# Altium integrated library Infineon_Sensor_IC.IntLib: 87 symbols (part 1 of 3)
Pins are listed as number, name and electrical type; pins without a type are passive.

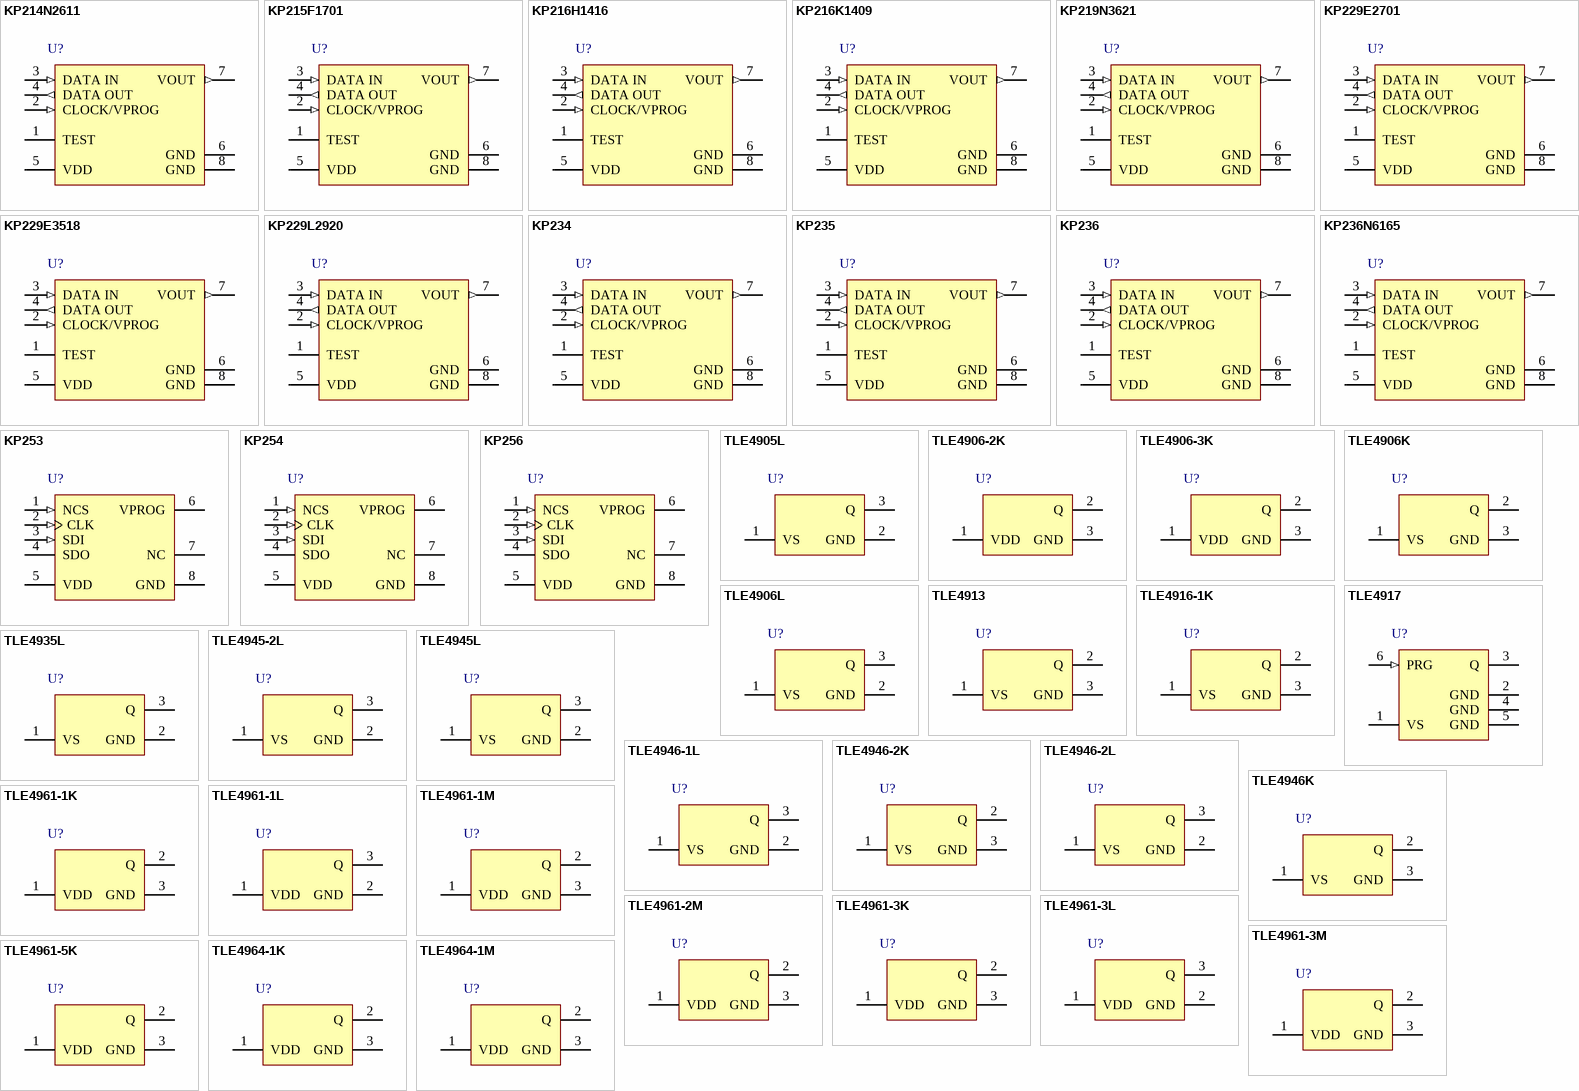
[diagram p0: symbols KP214N2611 to TLE4964-1M]

## KP214N2611
designator U?
Analog Absolute Pressure Sensor, -40 to 125 degC, DSOF-8-16, Reel, Green; Manufacturer: Infineon; PartNumber: KP214N2611; Green: TRUE; Pressure Range [kPa]: 15 - 115; Supply Voltage: 5 V; DatasheetVersion: Rev. 1.0; PackageVersion: Jun-10; PackageReference: DSOF-8-16; PackageDescription: 8-Pin Plastic (Green) Dual Small Outline Flat Package, 7 x 7 mm Body, 1.27 mm Pitch; Supplier 1: Mouser; Supplier Part Number 1: 726-KP214N2611; Supplier 2: Digi-Key; Supplier Part Number 2: KP214N2611-ND; Halogen-free: TRUE; Packing: Reel; Mounting Technology: Surface Mount; ComponentLink1Description: Manufacturer URL; ComponentLink1URL: http://www.infineon.com/; ComponentLink2Description: Datasheet; ComponentLink2URL: http://www.infineon.com/dgdl/KP214N2611_DS_Rev_1.0.pdf?folderId=db3a30431d8a6b3c011dd8fc5a954267&fileId=db3a30432ad629a6012af6ab37f00b3a; ComponentLink3Description: Package Specification; ComponentLink3URL: http://www.infineon.com/dgdl/KP234_DS_Rev_1.0.pdf?folderId=db3a30431d8a6b3c011dd8fc5a954267&fileId=db3a30432ad629a6012af66bbf030b08
footprint INF-DSOF-8-16_V (DSOF, 8-Leads, Body 7x7mm, Pitch 1.27mm)
pins: 1 TEST "Test pin", 2 CLOCK/VPROG (in) "External clock for communication / programming voltage", 3 DATA IN (in) "Serial data input pin", 4 DATA OUT (out) "Serial data output pin", 5 VDD (power) "Supply voltage", 6 GND (power) "Circuit ground potential", 7 VOUT (out) "Analog pressure signal output", 8 GND (power) "Circuit ground potential"

## KP215F1701
designator U?
Analog Absolute Pressure Sensor, -40 to 140 degC, DSOF-8-16, Reel, Green; Manufacturer: Infineon; PartNumber: KP215F1701; Green: TRUE; Pressure Range [kPa]: 10 - 115; Supply Voltage: 5 V; DatasheetVersion: Rev. 1.0; PackageVersion: Jun-10; PackageReference: DSOF-8-16; PackageDescription: 8-Pin Plastic (Green) Dual Small Outline Flat Package, 7 x 7 mm Body, 1.27 mm Pitch; Supplier 1: Mouser; Supplier Part Number 1: 726-KP215F1701; Supplier 2: Digi-Key; Supplier Part Number 2: KP215F1701-ND; Halogen-free: TRUE; Packing: Reel; Mounting Technology: Surface Mount; ComponentLink1Description: Manufacturer URL; ComponentLink1URL: http://www.infineon.com/; ComponentLink2Description: Datasheet; ComponentLink2URL: http://www.infineon.com/dgdl/KP215F1701_DS_Rev_1.0.pdf?folderId=db3a30431d8a6b3c011dd8fc5a954267&fileId=db3a30432ad629a6012af6a900a30b34; ComponentLink3Description: Package Specification; ComponentLink3URL: http://www.infineon.com/dgdl/KP234_DS_Rev_1.0.pdf?folderId=db3a30431d8a6b3c011dd8fc5a954267&fileId=db3a30432ad629a6012af66bbf030b08
footprint INF-DSOF-8-16_V (DSOF, 8-Leads, Body 7x7mm, Pitch 1.27mm)
pins: 1 TEST "Test pin", 2 CLOCK/VPROG (in) "External clock for communication / programming voltage", 3 DATA IN (in) "Serial data input pin", 4 DATA OUT (out) "Serial data output pin", 5 VDD (power) "Supply voltage", 6 GND (power) "Circuit ground potential", 7 VOUT (out) "Analog pressure signal output", 8 GND (power) "Circuit ground potential"

## KP216H1416
designator U?
Analog Absolute Pressure Sensor, -40 to 140 degC, DSOF-8-16, Reel, Green; Manufacturer: Infineon; PartNumber: KP216H1416; Green: TRUE; Pressure Range [kPa]: 50 - 150; Supply Voltage: 5 V; DatasheetVersion: Rev. 1.1; PackageVersion: Jun-10; PackageReference: DSOF-8-16; PackageDescription: 8-Pin Plastic (Green) Dual Small Outline Flat Package, 7 x 7 mm Body, 1.27 mm Pitch; Supplier 1: Mouser; Supplier Part Number 1: 726-KP216H1416; Supplier 2: Digi-Key; Supplier Part Number 2: KP216H1416-ND; Halogen-free: TRUE; Packing: Reel; Mounting Technology: Surface Mount; ComponentLink1Description: Manufacturer URL; ComponentLink1URL: http://www.infineon.com/; ComponentLink2Description: Datasheet; ComponentLink2URL: http://www.infineon.com/dgdl/KP216H1416_DS_Rev_+1.1.pdf?folderId=db3a30431d8a6b3c011dd8fc5a954267&fileId=db3a30432ad629a6012af6b321c40b4a; ComponentLink3Description: Package Specification; ComponentLink3URL: http://www.infineon.com/dgdl/KP234_DS_Rev_1.0.pdf?folderId=db3a30431d8a6b3c011dd8fc5a954267&fileId=db3a30432ad629a6012af66bbf030b08
footprint INF-DSOF-8-16_V (DSOF, 8-Leads, Body 7x7mm, Pitch 1.27mm)
pins: 1 TEST "Test pin", 2 CLOCK/VPROG (in) "External clock for communication / programming voltage", 3 DATA IN (in) "Serial data input pin", 4 DATA OUT (out) "Serial data output pin", 5 VDD (power) "Supply voltage", 6 GND (power) "Circuit ground potential", 7 VOUT (out) "Analog pressure signal output", 8 GND (power) "Circuit ground potential"

## KP216K1409
designator U?
Analog Absolute Pressure Sensor, -40 to 140 degC, DSOF-8-16, Reel, Green; Manufacturer: Infineon; PartNumber: KP216K1409; Green: TRUE; Pressure Range [kPa]: 15 - 115; Supply Voltage: 5 V; DatasheetVersion: Rev. 1.1; PackageVersion: Jun-10; PackageReference: DSOF-8-16; PackageDescription: 8-Pin Plastic (Green) Dual Small Outline Flat Package, 7 x 7 mm Body, 1.27 mm Pitch; Supplier 1: Mouser; Supplier Part Number 1: 726-KP216K1409; Supplier 2: Digi-Key; Supplier Part Number 2: KP216K1409-ND; Halogen-free: TRUE; Packing: Reel; Mounting Technology: Surface Mount; ComponentLink1Description: Manufacturer URL; ComponentLink1URL: http://www.infineon.com/; ComponentLink2Description: Datasheet; ComponentLink2URL: http://www.infineon.com/dgdl/KP216K1409_DS_Rev_1.1.pdf?folderId=db3a30431d8a6b3c011dd8fc5a954267&fileId=db3a30432ad629a6012af6b519ec0b50; ComponentLink3Description: Package Specification; ComponentLink3URL: http://www.infineon.com/dgdl/KP234_DS_Rev_1.0.pdf?folderId=db3a30431d8a6b3c011dd8fc5a954267&fileId=db3a30432ad629a6012af66bbf030b08
footprint INF-DSOF-8-16_V (DSOF, 8-Leads, Body 7x7mm, Pitch 1.27mm)
pins: 1 TEST "Test pin", 2 CLOCK/VPROG (in) "External clock for communication / programming voltage", 3 DATA IN (in) "Serial data input pin", 4 DATA OUT (out) "Serial data output pin", 5 VDD (power) "Supply voltage", 6 GND (power) "Circuit ground potential", 7 VOUT (out) "Analog pressure signal output", 8 GND (power) "Circuit ground potential"

## KP219N3621
designator U?
Analog Absolute Pressure Sensor, -40 to 125 degC, DSOF-8-16, Reel, Green; Manufacturer: Infineon; PartNumber: KP219N3621; Green: TRUE; Pressure Range [kPa]: 15 - 102; Supply Voltage: 5.1 V; DatasheetVersion: Rev. 1.0; PackageVersion: Jun-10; PackageReference: DSOF-8-16; PackageDescription: 8-Pin Plastic (Green) Dual Small Outline Flat Package, 7 x 7 mm Body, 1.27 mm Pitch; Supplier 1: Mouser; Supplier Part Number 1: 726-KP219N3621; Supplier 2: Digi-Key; Supplier Part Number 2: KP219N3621-ND; Halogen-free: TRUE; Packing: Reel; Mounting Technology: Surface Mount; ComponentLink1Description: Manufacturer URL; ComponentLink1URL: http://www.infineon.com/; ComponentLink2Description: Datasheet; ComponentLink2URL: http://www.infineon.com/dgdl/KP219N3621_DS_Rev_1.0.pdf?folderId=db3a30431d8a6b3c011dd8fc5a954267&fileId=db3a30432b5786da012b57a13ed40013; ComponentLink3Description: Package Specification; ComponentLink3URL: http://www.infineon.com/dgdl/KP234_DS_Rev_1.0.pdf?folderId=db3a30431d8a6b3c011dd8fc5a954267&fileId=db3a30432ad629a6012af66bbf030b08
footprint INF-DSOF-8-16_V (DSOF, 8-Leads, Body 7x7mm, Pitch 1.27mm)
pins: 1 TEST "Test pin", 2 CLOCK/VPROG (in), 3 DATA IN (in) "Serial data input pin", 4 DATA OUT (out) "Serial data output pin", 5 VDD (power) "Supply voltage", 6 GND (power) "Circuit ground potential", 7 VOUT (out) "Analog pressure signal output", 8 GND (power) "Circuit ground potential"

## KP229E2701
designator U?
Analog Absolute Pressure Sensor, -40 to 140 degC, DSOF-8-16, Reel, Green; Manufacturer: Infineon; PartNumber: KP229E2701; Green: TRUE; Pressure Range [kPa]: 10 - 300; Supply Voltage: 5 V; DatasheetVersion: Rev. 1.0; PackageVersion: Jun-10; PackageReference: DSOF-8-16; PackageDescription: 8-Pin Plastic (Green) Dual Small Outline Flat Package, 7 x 7 mm Body, 1.27 mm Pitch; Supplier 1: Mouser; Supplier Part Number 1: 726-KP229E2701; Supplier 2: Digi-Key; Supplier Part Number 2: KP229E2701-ND; Halogen-free: TRUE; Packing: Reel; Mounting Technology: Surface Mount; ComponentLink1Description: Manufacturer URL; ComponentLink1URL: http://www.infineon.com/; ComponentLink2Description: Datasheet; ComponentLink2URL: http://www.infineon.com/dgdl/KP229E2701_DS_Rev_1.0.pdf?folderId=db3a30431d8a6b3c011dd8fc5a954267&fileId=db3a30432ad629a6012af6bce0290b5d; ComponentLink3Description: Package Specification; ComponentLink3URL: http://www.infineon.com/dgdl/KP234_DS_Rev_1.0.pdf?folderId=db3a30431d8a6b3c011dd8fc5a954267&fileId=db3a30432ad629a6012af66bbf030b08
footprint INF-DSOF-8-16_V (DSOF, 8-Leads, Body 7x7mm, Pitch 1.27mm)
pins: 1 TEST "Test pin", 2 CLOCK/VPROG (in) "External clock for communication / programming voltage", 3 DATA IN (in) "Serial data input pin", 4 DATA OUT (out) "Serial data output pin", 5 VDD (power) "Supply voltage", 6 GND (power) "Circuit ground potential", 7 VOUT (out) "Analog pressure signal output", 8 GND (power) "Circuit ground potential"

## KP229E3518
designator U?
Analog Absolute Pressure Sensor, -40 to 140 degC, DSOF-8-16, Reel, Green; Manufacturer: Infineon; PartNumber: KP229E3518; Green: TRUE; Pressure Range [kPa]: 50 - 350; Supply Voltage: 5 V; DatasheetVersion: Rev. 1.0; PackageVersion: Jun-10; PackageReference: DSOF-8-16; PackageDescription: 8-Pin Plastic (Green) Dual Small Outline Flat Package, 7 x 7 mm Body, 1.27 mm Pitch; Supplier 1: Mouser; Supplier Part Number 1: 726-KP229E3518; Supplier 2: Digi-Key; Supplier Part Number 2: KP229E3518-ND; Halogen-free: TRUE; Packing: Reel; Mounting Technology: Surface Mount; ComponentLink1Description: Manufacturer URL; ComponentLink1URL: http://www.infineon.com/; ComponentLink2Description: Datasheet; ComponentLink2URL: http://www.infineon.com/dgdl/KP229E3518_DS_Rev_1.0.pdf?folderId=db3a30431d8a6b3c011dd8fc5a954267&fileId=db3a30432c59a87e012c5a5ff4a10006; ComponentLink3Description: Package Specification; ComponentLink3URL: http://www.infineon.com/dgdl/KP234_DS_Rev_1.0.pdf?folderId=db3a30431d8a6b3c011dd8fc5a954267&fileId=db3a30432ad629a6012af66bbf030b08
footprint INF-DSOF-8-16_V (DSOF, 8-Leads, Body 7x7mm, Pitch 1.27mm)
pins: 1 TEST "Test pin", 2 CLOCK/VPROG (in), 3 DATA IN (in) "Serial data input pin", 4 DATA OUT (out) "Serial data output pin", 5 VDD (power) "Supply voltage", 6 GND (power) "Circuit ground potential", 7 VOUT (out) "Analog pressure signal output", 8 GND (power) "Circuit ground potential"

## KP229L2920
designator U?
Analog Absolute Pressure Sensor, -40 to 140 degC, DSOF-8-16, Reel, Green; Manufacturer: Infineon; PartNumber: KP229L2920; Green: TRUE; Pressure Range [kPa]: 60 - 260; Supply Voltage: 5 V; DatasheetVersion: Rev. 1.0; PackageVersion: Jun-10; PackageReference: DSOF-8-16; PackageDescription: 8-Pin Plastic (Green) Dual Small Outline Flat Package, 7 x 7 mm Body, 1.27 mm Pitch; Supplier 1: Digi-Key; Supplier Part Number 1: KP229L2920-ND; Halogen-free: TRUE; Packing: Reel; Mounting Technology: Surface Mount; ComponentLink1Description: Manufacturer URL; ComponentLink1URL: http://www.infineon.com/; ComponentLink2Description: Datasheet; ComponentLink2URL: http://www.infineon.com/dgdl/KP229L2920_DS_Rev_1.0.pdf?folderId=db3a30431d8a6b3c011dd8fc5a954267&fileId=db3a30432ad629a6012af6be7d500b63; ComponentLink3Description: Package Specification; ComponentLink3URL: http://www.infineon.com/dgdl/KP234_DS_Rev_1.0.pdf?folderId=db3a30431d8a6b3c011dd8fc5a954267&fileId=db3a30432ad629a6012af66bbf030b08
footprint INF-DSOF-8-16_V (DSOF, 8-Leads, Body 7x7mm, Pitch 1.27mm)
pins: 1 TEST "Test pin", 2 CLOCK/VPROG (in) "External clock for communication / programming voltage", 3 DATA IN (in) "Serial data input pin", 4 DATA OUT (out) "Serial data output pin", 5 VDD (power) "Supply voltage", 6 GND (power) "Circuit ground potential", 7 VOUT (out) "Analog pressure signal output", 8 GND (power) "Circuit ground potential"

## KP234
designator U?
Analog Absolute Pressure Sensor, -40 to 125 degC, DSOF-8-16, Reel, Green; Manufacturer: Infineon; PartNumber: KP234; Green: TRUE; Pressure Range [kPa]: 40 - 115; Supply Voltage: 5 V; DatasheetVersion: Rev. 1.0; PackageVersion: Jun-10; PackageReference: DSOF-8-16; PackageDescription: 8-Pin Plastic (Green) Dual Small Outline Flat Package, 7 x 7 mm Body, 1.27 mm Pitch; Supplier 1: Mouser; Supplier Part Number 1: 726-KP234; Supplier 2: Digi-Key; Supplier Part Number 2: KP234-ND; Halogen-free: TRUE; Packing: Reel; Mounting Technology: Surface Mount; ComponentLink1Description: Manufacturer URL; ComponentLink1URL: http://www.infineon.com/; ComponentLink2Description: Datasheet; ComponentLink2URL: http://www.infineon.com/dgdl/KP234_DS_Rev_1.0.pdf?folderId=db3a30431d8a6b3c011dd8fc5a954267&fileId=db3a30432ad629a6012af66bbf030b08; ComponentLink3Description: Package Specification; ComponentLink3URL: http://www.infineon.com/dgdl/KP234_DS_Rev_1.0.pdf?folderId=db3a30431d8a6b3c011dd8fc5a954267&fileId=db3a30432ad629a6012af66bbf030b08
footprint INF-DSOF-8-16_V (DSOF, 8-Leads, Body 7x7mm, Pitch 1.27mm)
pins: 1 TEST "Test pin", 2 CLOCK/VPROG (in) "External clock for communication / programming voltage", 3 DATA IN (in) "Serial data input pin", 4 DATA OUT (out) "Serial data output pin", 5 VDD (power) "Supply voltage", 6 GND (power) "Circuit ground potential", 7 VOUT (out) "Analog pressure signal output", 8 GND (power) "Circuit ground potential"

## KP235
designator U?
Analog Absolute Pressure Sensor, -40 to 125 degC, DSOF-8-16, Reel, Green; Manufacturer: Infineon; PartNumber: KP235; Green: TRUE; Pressure Range [kPa]: 40 - 115; Supply Voltage: 5 V; DatasheetVersion: Rev. 1.0; PackageVersion: Jun-10; PackageReference: DSOF-8-16; PackageDescription: 8-Pin Plastic (Green) Dual Small Outline Flat Package, 7 x 7 mm Body, 1.27 mm Pitch; Supplier 1: Mouser; Supplier Part Number 1: 726-KP235; Supplier 2: Digi-Key; Supplier Part Number 2: KP235TR-ND; Supplier 3: Digi-Key; Supplier Part Number 3: KP235CT-ND; Supplier 4: Digi-Key; Supplier Part Number 4: KP235DKR-ND; Halogen-free: TRUE; Packing: Reel; Mounting Technology: Surface Mount; ComponentLink1Description: Manufacturer URL; ComponentLink1URL: http://www.infineon.com/; ComponentLink2Description: Datasheet; ComponentLink2URL: http://www.infineon.com/dgdl/KP235_DS_Rev_1.0.pdf?folderId=db3a30431d8a6b3c011dd8fc5a954267&fileId=db3a30432ad629a6012af67ba47c0b0f; ComponentLink3Description: Package Specification; ComponentLink3URL: http://www.infineon.com/dgdl/KP234_DS_Rev_1.0.pdf?folderId=db3a30431d8a6b3c011dd8fc5a954267&fileId=db3a30432ad629a6012af66bbf030b08
footprint INF-DSOF-8-16_V (DSOF, 8-Leads, Body 7x7mm, Pitch 1.27mm)
pins: 1 TEST "Test pin", 2 CLOCK/VPROG (in) "External clock for communication / programming voltage", 3 DATA IN (in) "Serial data input pin", 4 DATA OUT (out) "Serial data output pin", 5 VDD (power) "Supply voltage", 6 GND (power) "Circuit ground potential", 7 VOUT (out) "Analog pressure signal output", 8 GND (power) "Circuit ground potential"

## KP236
designator U?
Analog Absolute Pressure Sensor, -40 to 125 degC, DSOF-8-16, Reel, Green; Manufacturer: Infineon; PartNumber: KP236; Green: TRUE; Pressure Range [kPa]: 40 - 115; Supply Voltage: 5 V; DatasheetVersion: Rev. 1.0; PackageVersion: Jun-10; PackageReference: DSOF-8-16; PackageDescription: 8-Pin Plastic (Green) Dual Small Outline Flat Package, 7 x 7 mm Body, 1.27 mm Pitch; Supplier 1: Mouser; Supplier Part Number 1: 726-KP236; Supplier 2: Digi-Key; Supplier Part Number 2: KP236-ND; Halogen-free: TRUE; Packing: Reel; Mounting Technology: Surface Mount; ComponentLink1Description: Manufacturer URL; ComponentLink1URL: http://www.infineon.com/; ComponentLink2Description: Datasheet; ComponentLink2URL: http://www.infineon.com/dgdl/KP236_DS_Rev_1.0.pdf?folderId=db3a30431d8a6b3c011dd8fc5a954267&fileId=db3a30432ad629a6012af67dbdc20b14; ComponentLink3Description: Package Specification; ComponentLink3URL: http://www.infineon.com/dgdl/KP234_DS_Rev_1.0.pdf?folderId=db3a30431d8a6b3c011dd8fc5a954267&fileId=db3a30432ad629a6012af66bbf030b08
footprint INF-DSOF-8-16_V (DSOF, 8-Leads, Body 7x7mm, Pitch 1.27mm)
pins: 1 TEST "Test pin", 2 CLOCK/VPROG (in) "External clock for communication / programming voltage", 3 DATA IN (in) "Serial data input pin", 4 DATA OUT (out) "Serial data output pin", 5 VDD (power) "Supply voltage", 6 GND (power) "Circuit ground potential", 7 VOUT (out) "Analog pressure signal output", 8 GND (power) "Circuit ground potential"

## KP236N6165
designator U?
Analog Absolute Pressure Sensor, -40 to 125 degC, DSOF-8-16, Reel, Green; Manufacturer: Infineon; PartNumber: KP236N6165; Green: TRUE; Pressure Range [kPa]: 60 - 165; Supply Voltage: 5 V; DatasheetVersion: Rev. 1.0; PackageVersion: Jun-10; PackageReference: DSOF-8-16; PackageDescription: 8-Pin Plastic (Green) Dual Small Outline Flat Package, 7 x 7 mm Body, 1.27 mm Pitch; Supplier 1: Mouser; Supplier Part Number 1: 726-KP236N6165; Supplier 2: Digi-Key; Supplier Part Number 2: KP236N6165-ND; Halogen-free: TRUE; Packing: Reel; Mounting Technology: Surface Mount; ComponentLink1Description: Manufacturer URL; ComponentLink1URL: http://www.infineon.com/; ComponentLink2Description: Datasheet; ComponentLink2URL: http://www.infineon.com/dgdl/KP236N6165_DS_Rev_1.0.pdf?folderId=db3a30431d8a6b3c011dd8fc5a954267&fileId=db3a30432ad629a6012af68133600b1a; ComponentLink3Description: Package Specification; ComponentLink3URL: http://www.infineon.com/dgdl/KP234_DS_Rev_1.0.pdf?folderId=db3a30431d8a6b3c011dd8fc5a954267&fileId=db3a30432ad629a6012af66bbf030b08
footprint INF-DSOF-8-16_V (DSOF, 8-Leads, Body 7x7mm, Pitch 1.27mm)
pins: 1 TEST "Test pin", 2 CLOCK/VPROG (in) "External clock for communication / programming voltage", 3 DATA IN (in) "Serial data input pin", 4 DATA OUT (out) "Serial data output pin", 5 VDD (power) "Supply voltage", 6 GND (power) "Circuit ground potential", 7 VOUT (out) "Analog pressure signal output", 8 GND (power) "Circuit ground potential"

## KP253
designator U?
Digital Absolute Pressure Sensor, 60 to 165 kPa, 3.3 to 5 V, -40 to 125 degC, PG-DSOF-8, Reel, Green; Manufacturer: Infineon; PartNumber: KP253; Accuracy: +/- 1.0 kPa; Green: TRUE; Output: Digital SPI; DatasheetVersion: Rev. 1.0; PackageReference: PG-DSOF-8-16; PackageDescription: 8-Pin Plastic (Green) Dual Small Outline Flat Package, 7 x 7 mm Body, 1.27 mm Pitch; Halogen-free: TRUE; Packing: Reel; Pressure Range [kPa]: 60 to 165; Supply Voltage Range: 3.3 to 5 V; Mounting Technology: Surface Mount; ComponentLink1Description: Manufacturer URL; ComponentLink1URL: http://www.infineon.com/; ComponentLink2Description: Datasheet; ComponentLink2URL: http://www.infineon.com/dgdl/KP253_DS_Rev_1.0.pdf?folderId=db3a30431d8a6b3c011dd8fc5a954267&fileId=db3a3043382e8373013847bc36527892; ComponentLink3Description: Package Specification; ComponentLink3URL: http://www.infineon.com/dgdl/KP256_DS_Rev_1.0.pdf?folderId=db3a30431d8a6b3c011dd8fc5a954267&fileId=db3a3043382e8373013847b49bbf7872
footprint INF-PG-DSOF-8-16_V (DSOF, 8-Leads, Body 7.425x7.025mm, Pitch 1.27mm)
pins: 1 NCS (in) "Not-Chip-Select (active-low)", 2 CLK (in) "Serial Clock", 3 SDI (in) "Serial Data In", 4 SDO (hiz) "Serial Data Out", 5 VDD (power) "Supply voltage", 6 VPROG (power) "Programming Voltage", 7 NC "Not Connected", 8 GND (power) "Ground"

## KP254
designator U?
Digital Absolute Pressure Sensor, 40 to 115 kPa, 3.3 to 5 V, -40 to 125 degC, PG-DSOF-8, Reel, Green; Manufacturer: Infineon; PartNumber: KP254; Accuracy: +/- 1.5 kPa; Green: TRUE; Output: Digital SPI; DatasheetVersion: Rev 1.0; PackageReference: PG-DSOF-8-16; PackageDescription: 8-Pin Plastic (Green) Dual Small Outline Flat Package, 7 x 7 mm Body, 1.27 mm Pitch; Halogen-free: TRUE; Packing: Reel; Pressure Range [kPa]: 40 to 115; Supply Voltage Range: 3.3 to 5 V; Mounting Technology: Surface Mount; ComponentLink1Description: Manufacturer URL; ComponentLink1URL: http://www.infineon.com/; ComponentLink2Description: Datasheet; ComponentLink2URL: http://www.infineon.com/dgdl/KP254_DS_Rev_1.0.pdf?folderId=db3a30431d8a6b3c011dd8fc5a954267&fileId=db3a3043382e8373013847b288377869; ComponentLink3Description: Package Specification; ComponentLink3URL: http://www.infineon.com/dgdl/KP256_DS_Rev_1.0.pdf?folderId=db3a30431d8a6b3c011dd8fc5a954267&fileId=db3a3043382e8373013847b49bbf7872
footprint INF-PG-DSOF-8-16_V (DSOF, 8-Leads, Body 7.425x7.025mm, Pitch 1.27mm)
pins: 1 NCS (in) "Not-Chip-Select (active-low)", 2 CLK (in) "Serial Clock", 3 SDI (in) "Serial Data In", 4 SDO (hiz) "Serial Data Out", 5 VDD (power) "Supply voltage", 6 VPROG (power) "Programming Voltage", 7 NC "Not Connected", 8 GND (power) "Ground"

## KP256
designator U?
Digital Absolute Pressure Sensor, 60 to 165 kPa, 3.3 to 5 V, -40 to 125 degC, PG-DSOF-8, Reel, Green; Manufacturer: Infineon; PartNumber: KP256; Accuracy: +/- 1.0 kPa; Green: TRUE; Output: Digital SPI; DatasheetVersion: Rev. 1.0; PackageReference: PG-DSOF-8-16; PackageDescription: 8-Pin Plastic (Green) Dual Small Outline Flat Package, 7 x 7 mm Body, 1.27 mm Pitch; Supplier 1: Mouser; Supplier Part Number 1: N/A; Halogen-free: TRUE; Packing: Reel; Pressure Range [kPa]: 60 to 165; Supply Voltage Range: 3.3 to 5 V; Mounting Technology: Surface Mount; ComponentLink1Description: Manufacturer URL; ComponentLink1URL: http://www.infineon.com/; ComponentLink2Description: Datasheet; ComponentLink2URL: http://www.infineon.com/dgdl/KP256_DS_Rev_1.0.pdf?folderId=db3a30431d8a6b3c011dd8fc5a954267&fileId=db3a3043382e8373013847b49bbf7872; ComponentLink3Description: Package Specification; ComponentLink3URL: http://www.infineon.com/dgdl/KP256_DS_Rev_1.0.pdf?folderId=db3a30431d8a6b3c011dd8fc5a954267&fileId=db3a3043382e8373013847b49bbf7872
footprint INF-PG-DSOF-8-16_V (DSOF, 8-Leads, Body 7.425x7.025mm, Pitch 1.27mm)
pins: 1 NCS (in) "Not-Chip-Select (active-low)", 2 CLK (in) "Serial Clock", 3 SDI (in) "Serial Data In", 4 SDO (hiz) "Serial Data Out", 5 VDD (power) "Supply voltage", 6 VPROG (power) "Programming Voltage", 7 NC "Not Connected", 8 GND (power) "Ground"

## TLE4905L
designator U?
Uni- and Bipolar Hall IC Switch for Magnetic Field Applications, PG-SSO-3-2, AMMO-PACK, Green; Manufacturer: Infineon; PartNumber: TLE4905L; Bhyst (25degreesC) max: 4 mT; Bop (25degreesC) min: 12.5 mT; Brp (25degreesC) typ: 10.5 mT; Chopped Hall Technology: FALSE; Green: TRUE; Interface: open collector; Target Application: Automotive; DatasheetVersion: Rev. 1.5; PackageVersion: Jul-12; PackageReference: PG-SSO-3-2; PackageDescription: 3-Pin Plastic (Green) Single Small Outline, 4.16 x 3.29 mm Body, 1.27 mm Pitch; Supplier 1: Mouser; Supplier Part Number 1: 726-TLE4905L; Supplier 2: Digi-Key; Supplier Part Number 2: TLE4905L-ND; Direction Detection: FALSE; Packing: AMMO-PACK; Type: Unipolar; Mounting Technology: Through Hole; ComponentLink1Description: Manufacturer URL; ComponentLink1URL: http://www.infineon.com/; ComponentLink2Description: Datasheet; ComponentLink2URL: http://www.infineon.com/dgdl/TLE49x5L_Family_V1_5_Data_Sheet.pdf?folderId=db3a30431f848401011facc1c83b4674&fileId=db3a30431f848401011fbc64a85f6363; ComponentLink3Description: Package Specification; ComponentLink3URL: http://www.infineon.com/dgdl/TLE4961-1L_DS_Rev1.0.pdf?folderId=db3a30431ce5fb52011d29818c631b6b&fileId=db3a3043397219b6013977b435505444
footprint INF-PG-SSO-3-2_V (SSO, 3-Leads, Body 4.16x3.29mm, Pitch 1.27mm)
pins: 1 VS (power) "Supply Voltage", 2 GND (power) "Ground", 3 Q (oc) "Output"

## TLE4906-2K
designator U?
High Precision Hall Effect Switch for Industrial and Consumer Applications, PG-SC59, Reel, Green; Manufacturer: Infineon; PartNumber: TLE4906-2K; Bhyst (25degreesC) max: 5.5 mT; Bop (25degreesC) min: 18 mT; Brp (25degreesC) typ: 12.5 mT; Chopped Hall Technology: TRUE; Direction Detection: FALSE; Interface: open collector; Target Application: Automotive; DatasheetVersion: Rev. 0.9; PackageVersion: Mar-08; PackageReference: PG-SC59; PackageDescription: 3-Pin Semiconductor Package, 3 x 1.53 mm Body, 0.95 mm Pitch; Supplier 1: Mouser; Supplier Part Number 1: 726-TLE4906-2K; Green: TRUE; Packing: Reel; Type: Unipolar; Mounting Technology: Surface Mount; ComponentLink1Description: Manufacturer URL; ComponentLink1URL: http://www.infineon.com/; ComponentLink2Description: Datasheet; ComponentLink2URL: http://www.infineon.com/dgdl/TLI4906x_V1_DS_Rev0.9.pdf?folderId=db3a30431689f4420116a096e1db033e&fileId=db3a304316f66ee8011754425fe50642; ComponentLink3Description: Package Specification; ComponentLink3URL: http://www.infineon.com/dgdl/SC59-Package_Overview.pdf?folderId=db3a30431936bc4b01194dc0d34440b0&fileId=db3a30431936bc4b01194dd1aa1d40cf
footprint INF-PG-SC59_N (SOT23, 3-Leads, Body 3x1.53mm, Pitch 0.95mm, IPC Medium Density)
footprint INF-PG-SC59_L (SOT23, 3-Leads, Body 3x1.53mm, Pitch 0.95mm, IPC High Density)
footprint INF-PG-SC59_M (SOT23, 3-Leads, Body 3x1.53mm, Pitch 0.95mm, IPC Low Density)
pins: 1 VDD (power) "Supply voltage", 2 Q (oc) "Output", 3 GND (power) "Ground"

## TLE4906-3K
designator U?
High Precision Hall-Effect Switch, PG-SC59, Reel, Green; Manufacturer: Infineon; PartNumber: TLE4906-3K; Bhyst (25degreesC) max: 5.5 mT; Bop (25degreesC) min: 28 mT; Brp (25degreesC) typ: 22.5 mT; Chopped Hall Technology: TRUE; Direction Detection: FALSE; Interface: open collector; Target Application: Automotive; DatasheetVersion: Rev. 1.0; PackageVersion: Mar-08; PackageReference: PG-SC59; PackageDescription: 3-Pin Semiconductor Package, 3 x 1.53 mm Body, 0.95 mm Pitch; Supplier 1: Mouser; Supplier Part Number 1: 726-TLE4906-3K; Green: TRUE; Packing: Reel; Type: Unipolar; Mounting Technology: Surface Mount; ComponentLink1Description: Manufacturer URL; ComponentLink1URL: http://www.infineon.com/; ComponentLink2Description: Datasheet; ComponentLink2URL: http://www.infineon.com/dgdl/TLE4906-3K_Datasheet_Rev1.0.pdf?folderId=db3a30431ce5fb52011d29818c631b6b&fileId=db3a30432e25b009012e295e1ade3798; ComponentLink3Description: Package Specification; ComponentLink3URL: http://www.infineon.com/dgdl/SC59-Package_Overview.pdf?folderId=db3a30431936bc4b01194dc0d34440b0&fileId=db3a30431936bc4b01194dd1aa1d40cf
footprint INF-PG-SC59_N (SOT23, 3-Leads, Body 3x1.53mm, Pitch 0.95mm, IPC Medium Density)
footprint INF-PG-SC59_L (SOT23, 3-Leads, Body 3x1.53mm, Pitch 0.95mm, IPC High Density)
footprint INF-PG-SC59_M (SOT23, 3-Leads, Body 3x1.53mm, Pitch 0.95mm, IPC Low Density)
pins: 1 VDD (power) "Supply voltage", 2 Q (oc) "Output", 3 GND (power) "Ground"

## TLE4906K
designator U?
High Precision Hall Effect Switch, PG-SC59, Reel, Green; Manufacturer: Infineon; PartNumber: TLE4906K; Bhyst (25degreesC) max: 1.5 mT; Bop (25degreesC) min: 10 mT; Brp (25degreesC) typ: 8.5 mT; Chopped Hall Technology: TRUE; Direction Detection: FALSE; Interface: open collector; Target Application: Automotive; DatasheetVersion: Rev. 2.0; PackageVersion: Mar-08; PackageReference: PG-SC59; PackageDescription: 3-Pin Semiconductor Package, 3 x 1.53 mm Body, 0.95 mm Pitch; Supplier 1: Mouser; Supplier Part Number 1: 726-TLE4906K; Supplier 2: Digi-Key; Supplier Part Number 2: TLE4906KTR-ND; Supplier 3: Digi-Key; Supplier Part Number 3: TLE4906KCT-ND; Supplier 4: Digi-Key; Supplier Part Number 4: TLE4906KDKR-ND; Green: TRUE; Packing: Reel; Type: Unipolar; Mounting Technology: Surface Mount; ComponentLink1Description: Manufacturer URL; ComponentLink1URL: http://www.infineon.com/; ComponentLink2Description: Datasheet; ComponentLink2URL: http://www.infineon.com/dgdl/TLE4906+Data+Sheet+V2.pdf?folderId=db3a30431f848401011facc1c83b4674&fileId=db3a30431f848401011fbc8bb25c6373; ComponentLink3Description: Package Specification; ComponentLink3URL: http://www.infineon.com/dgdl/SC59-Package_Overview.pdf?folderId=db3a30431936bc4b01194dc0d34440b0&fileId=db3a30431936bc4b01194dd1aa1d40cf
footprint INF-PG-SC59_N (SOT23, 3-Leads, Body 3x1.53mm, Pitch 0.95mm, IPC Medium Density)
footprint INF-PG-SC59_L (SOT23, 3-Leads, Body 3x1.53mm, Pitch 0.95mm, IPC High Density)
footprint INF-PG-SC59_M (SOT23, 3-Leads, Body 3x1.53mm, Pitch 0.95mm, IPC Low Density)
pins: 1 VS (power) "Supply voltage", 2 Q (oc) "Output", 3 GND (power) "Ground"

## TLE4906L
designator U?
High Precision Hall Effect Switch, -40 to 150 degC, PG-SSO-3-2, AMMO-PACK, Green; Manufacturer: Infineon; PartNumber: TLE4906L; Bhyst (25degreesC) max: 1.5 mT; Bop (25degreesC) min: 10 mT; Brp (25degreesC) typ: 8.5 mT; Chopped Hall Technology: TRUE; Direction Detection: FALSE; Interface: open collector; Target Application: Automotive; DatasheetVersion: Rev. 2.0; PackageVersion: Jul-12; PackageReference: PG-SSO-3-2; PackageDescription: 3-Pin Plastic (Green) Single Small Outline, 4.16 x 3.29 mm Body, 1.27 mm Pitch; Supplier 1: Mouser; Supplier Part Number 1: 726-TLE4906L; Supplier 2: Digi-Key; Supplier Part Number 2: TLE4906LINTB-ND; Supplier 3: Digi-Key; Supplier Part Number 3: TLE4906LINCT-ND; Green: TRUE; Packing: AMMO-PACK; Type: Unipolar; Mounting Technology: Through Hole; ComponentLink1Description: Manufacturer URL; ComponentLink1URL: http://www.infineon.com/; ComponentLink2Description: Datasheet; ComponentLink2URL: http://www.infineon.com/dgdl/TLE4906+Data+Sheet+V2.pdf?folderId=db3a30431f848401011facc1c83b4674&fileId=db3a30431f848401011fbc8bb25c6373; ComponentLink3Description: Package Specification; ComponentLink3URL: http://www.infineon.com/dgdl/TLE4961-1L_DS_Rev1.0.pdf?folderId=db3a30431ce5fb52011d29818c631b6b&fileId=db3a3043397219b6013977b435505444
footprint INF-PG-SSO-3-2_V (SSO, 3-Leads, Body 4.16x3.29mm, Pitch 1.27mm)
pins: 1 VS (power) "Supply Voltage", 2 GND (power) "Ground", 3 Q (oc) "Output"

## TLE4913
designator U?
Low Power Hall Switch, PG-SC59, Reel, Green; Manufacturer: Infineon; PartNumber: TLE4913; Bhyst (25degreesC) max: 0.8 mT; Bop (25degreesC) min: 3.5 mT; Brp (25degreesC) typ: 2.7 mT; Chopped Hall Technology: TRUE; Direction Detection: FALSE; Interface: open collector; Target Application: Consumer, Mobile (Low power); DatasheetVersion: Rev. 2.2; PackageVersion: Mar-08; PackageReference: PG-SC59; PackageDescription: 3-Pin Semiconductor Package, 3 x 1.53 mm Body, 0.95 mm Pitch; Supplier 1: Mouser; Supplier Part Number 1: 726-TLE4913; Supplier 2: Newark; Supplier Part Number 2: 47W3779; Supplier 3: Farnell; Supplier Part Number 3: 2215553; Supplier 4: Digi-Key; Supplier Part Number 4: TLE4913INTR-ND; Supplier 5: Digi-Key; Supplier Part Number 5: TLE4913INCT-ND; Supplier 6: Digi-Key; Supplier Part Number 6: TLE4913INDKR-ND; Green: TRUE; Packing: Reel; Type: Omnipolar Switch; Mounting Technology: Surface Mount; ComponentLink1Description: Manufacturer URL; ComponentLink1URL: http://www.infineon.com/; ComponentLink2Description: Datasheet; ComponentLink2URL: http://www.infineon.com/dgdl/TLE4913_Data_Sheet_2006_03_16.pdf?folderId=db3a30431689f4420116a096e1db033e&fileId=db3a304316f66ee80117544449e10647; ComponentLink3Description: Package Specification; ComponentLink3URL: http://www.infineon.com/dgdl/SC59-Package_Overview.pdf?folderId=db3a30431936bc4b01194dc0d34440b0&fileId=db3a30431936bc4b01194dd1aa1d40cf
footprint INF-PG-SC59_N (SOT23, 3-Leads, Body 3x1.53mm, Pitch 0.95mm, IPC Medium Density)
footprint INF-PG-SC59_L (SOT23, 3-Leads, Body 3x1.53mm, Pitch 0.95mm, IPC High Density)
footprint INF-PG-SC59_M (SOT23, 3-Leads, Body 3x1.53mm, Pitch 0.95mm, IPC Low Density)
pins: 1 VS (power) "Supply voltage", 2 Q (oc) "Output", 3 GND (power) "Ground"

## TLE4916-1K
designator U?
Low Power Automotive Hall Switch, -40 to 125 degC, PG-SC59, Reel, Green; Manufacturer: Infineon; PartNumber: TLE4916-1K; Bhyst (25degreesC) max: 7 mT; Bop (25degreesC) min: 3.5 mT; Brp (25degreesC) typ: -3.5 mT; Chopped Hall Technology: FALSE; Green: TRUE; Interface: open collector; Target Application: Automotive (Low Power); DatasheetVersion: Rev. 1.0; PackageVersion: Mar-08; PackageReference: PG-SC59; PackageDescription: 3-Pin Semiconductor Package, 3 x 1.53 mm Body, 0.95 mm Pitch; Supplier 1: Mouser; Supplier Part Number 1: 726-TLE49161K; Supplier 2: Digi-Key; Supplier Part Number 2: TLE4916-1K-ND; Direction Detection: FALSE; Packing: Reel; Type: Latch; Mounting Technology: Surface Mount; ComponentLink1Description: Manufacturer URL; ComponentLink1URL: http://www.infineon.com/; ComponentLink2Description: Datasheet; ComponentLink2URL: http://www.infineon.com/dgdl/TLE4916-1K_FinalDS_Rev1.pdf?folderId=db3a30431689f4420116a096e1db033e&fileId=db3a304327b8975001281b98f40d1aeb; ComponentLink3Description: Package Specification; ComponentLink3URL: http://www.infineon.com/dgdl/SC59-Package_Overview.pdf?folderId=db3a30431936bc4b01194dc0d34440b0&fileId=db3a30431936bc4b01194dd1aa1d40cf
footprint INF-PG-SC59_N (SOT23, 3-Leads, Body 3x1.53mm, Pitch 0.95mm, IPC Medium Density)
footprint INF-PG-SC59_L (SOT23, 3-Leads, Body 3x1.53mm, Pitch 0.95mm, IPC High Density)
footprint INF-PG-SC59_M (SOT23, 3-Leads, Body 3x1.53mm, Pitch 0.95mm, IPC Low Density)
pins: 1 VS (power) "Supply voltage", 2 Q (oc) "Output", 3 GND (power) "Ground"

## TLE4917
designator U?
Low Power Hall Switch, P-TSOP6-6-2, Reel, Green; Manufacturer: Infineon; PartNumber: TLE4917; Bhyst (25degreesC) max: 1 mT; Bop (25degreesC) min: 5 mT; Brp (25degreesC) typ: 4 mT; Chopped Hall Technology: TRUE; Direction Detection: FALSE; Interface: open collector; Target Application: Consumer, Mobile (Low power); PackageVersion: Aug-02; PackageReference: P-TSOP6-6-2; PackageDescription: 6-Pin Thin Small Outline Package, 2.9 x 1.6 mm Body, 0.95 mm Pitch; Supplier 1: Mouser; Supplier Part Number 1: 726-TLE4917; Supplier 2: Digi-Key; Supplier Part Number 2: TLE4917-ND; Green: TRUE; Packing: Reel; Type: Omnipolar Switch; Mounting Technology: Surface Mount; ComponentLink1Description: Manufacturer URL; ComponentLink1URL: http://www.infineon.com/; ComponentLink2Description: Datasheet; ComponentLink2URL: http://www.infineon.com/dgdl/TLE4917-Datasheet_2006_03_16.pdf?folderId=db3a30431689f4420116a096e1db033e&fileId=db3a304316f66ee8011754aba29606cd; ComponentLink3Description: Package Specification; ComponentLink3URL: http://www.infineon.com/dgdl/TLE4917-Datasheet_2006_03_16.pdf?folderId=db3a30431689f4420116a096e1db033e&fileId=db3a304316f66ee8011754aba29606cd
footprint INF-P-TSOP6-6-2_N (SOP, 6-Leads, Body 2.9x1.6mm, Pitch 0.95mm, IPC Medium Density)
footprint INF-P-TSOP6-6-2_L (SOP, 6-Leads, Body 2.9x1.6mm, Pitch 0.95mm, IPC High Density)
footprint INF-P-TSOP6-6-2_M (SOP, 6-Leads, Body 2.9x1.6mm, Pitch 0.95mm, IPC Low Density)
pins: 1 VS (power) "Supply Voltage", 2 GND (power) "Ground", 3 Q (oc) "Open Drain Output", 4 GND (power) "Ground", 5 GND (power) "Ground", 6 PRG (in) "Programming Input"

## TLE4935L
designator U?
Uni- and Bipolar Hall IC Switch for Magnetic Field Applications, PG-SSO-3-2, AMMO-PACK, Green; Manufacturer: Infineon; PartNumber: TLE4935L; Bhyst (25degreesC) max: 30 mT; Bop (25degreesC) min: 15 mT; Brp (25degreesC) typ: -15 mT; Chopped Hall Technology: FALSE; Green: TRUE; Interface: open collector; Target Application: Automotive; DatasheetVersion: Rev. 1.5; PackageVersion: Jul-12; PackageReference: PG-SSO-3-2; PackageDescription: 3-Pin Plastic (Green) Single Small Outline, 4.16 x 3.29 mm Body, 1.27 mm Pitch; Supplier 1: Mouser; Supplier Part Number 1: 726-TLE4935L; Supplier 2: Digi-Key; Supplier Part Number 2: TLE4935L-ND; Direction Detection: FALSE; Packing: AMMO-PACK; Type: Latch; Mounting Technology: Through Hole; ComponentLink1Description: Manufacturer URL; ComponentLink1URL: http://www.infineon.com/; ComponentLink2Description: Datasheet; ComponentLink2URL: http://www.infineon.com/dgdl/Data_Sheet_TLE49x5L_V1_5.pdf?folderId=db3a30431689f4420116a096e1db033e&fileId=db3a304316f66ee80117549ac8b206b1; ComponentLink3Description: Package Specification; ComponentLink3URL: http://www.infineon.com/dgdl/TLE4961-1L_DS_Rev1.0.pdf?folderId=db3a30431ce5fb52011d29818c631b6b&fileId=db3a3043397219b6013977b435505444
footprint INF-PG-SSO-3-2_V (SSO, 3-Leads, Body 4.16x3.29mm, Pitch 1.27mm)
pins: 1 VS (power) "Supply Voltage", 2 GND (power) "Ground", 3 Q (oc) "Output"

## TLE4945-2L
designator U?
Uni- and Bipolar Hall IC Switch for Magnetic Field Applications, PG-SSO-3-2, AMMO-PACK, Green; Manufacturer: Infineon; PartNumber: TLE4945-2L; Bhyst (25degreesC) max: 3 mT; Bop (25degreesC) min: 1.5 mT; Brp (25degreesC) typ: -1.5 mT; Chopped Hall Technology: FALSE; Green: TRUE; Interface: open collector; Target Application: Automotive; DatasheetVersion: Rev. 1.5; PackageVersion: Jul-12; PackageReference: PG-SSO-3-2; PackageDescription: 3-Pin Plastic (Green) Single Small Outline, 4.16 x 3.29 mm Body, 1.27 mm Pitch; Supplier 1: Mouser; Supplier Part Number 1: 726-TLE49452L; Supplier 2: Digi-Key; Supplier Part Number 2: TLE4945-2LINTB-ND; Supplier 3: Digi-Key; Supplier Part Number 3: TLE4945-2LINCT-ND; Direction Detection: FALSE; Packing: AMMO-PACK; Type: Bipolar Switch; Mounting Technology: Through Hole; ComponentLink1Description: Manufacturer URL; ComponentLink1URL: http://www.infineon.com/; ComponentLink2Description: Datasheet; ComponentLink2URL: http://www.infineon.com/dgdl/Data_Sheet_TLE49x5L_Family_V1_5.pdf?folderId=db3a30431689f4420116a096e1db033e&fileId=db3a304316f66ee801173f11d5a23c96; ComponentLink3Description: Package Specification; ComponentLink3URL: http://www.infineon.com/dgdl/TLE4961-1L_DS_Rev1.0.pdf?folderId=db3a30431ce5fb52011d29818c631b6b&fileId=db3a3043397219b6013977b435505444
footprint INF-PG-SSO-3-2_V (SSO, 3-Leads, Body 4.16x3.29mm, Pitch 1.27mm)
pins: 1 VS (power) "Supply Voltage", 2 GND (power) "Ground", 3 Q (oc) "Output"

## TLE4945L
designator U?
Uni- and Bipolar Hall IC Switch for Magnetic Field Applications, PG-SSO-3-2, AMMO-PACK, Green; Manufacturer: Infineon; PartNumber: TLE4945L; Bhyst (25degreesC) max: 6 mT; Bop (25degreesC) min: 2 mT; Brp (25degreesC) typ: -2 mT; Chopped Hall Technology: FALSE; Green: TRUE; Interface: open collector; Target Application: Automotive; DatasheetVersion: Rev. 1.5; PackageVersion: Jul-12; PackageReference: PG-SSO-3-2; PackageDescription: 3-Pin Plastic (Green) Single Small Outline, 4.16 x 3.29 mm Body, 1.27 mm Pitch; Supplier 1: Mouser; Supplier Part Number 1: 726-TLE4945L; Supplier 2: Digi-Key; Supplier Part Number 2: TLE4945LINTB-ND; Supplier 3: Digi-Key; Supplier Part Number 3: TLE4945LINCT-ND; Supplier 4: Digi-Key; Supplier Part Number 4: TLE4945LINDKR-ND; Direction Detection: FALSE; Packing: AMMO-PACK; Type: Bipolar Switch; Mounting Technology: Through Hole; ComponentLink1Description: Manufacturer URL; ComponentLink1URL: http://www.infineon.com/; ComponentLink2Description: Datasheet; ComponentLink2URL: http://www.infineon.com/dgdl/Data_Sheet_TLE49x5L_V1_5.pdf?folderId=db3a30431689f4420116a096e1db033e&fileId=db3a304316f66ee80117549ac8b206b1; ComponentLink3Description: Package Specification; ComponentLink3URL: http://www.infineon.com/dgdl/TLE4961-1L_DS_Rev1.0.pdf?folderId=db3a30431ce5fb52011d29818c631b6b&fileId=db3a3043397219b6013977b435505444
footprint INF-PG-SSO-3-2_V (SSO, 3-Leads, Body 4.16x3.29mm, Pitch 1.27mm)
pins: 1 VS (power) "Supply Voltage", 2 GND (power) "Ground", 3 Q (oc) "Output"

## TLE4946-1L
designator U?
High Precision Bipolar Hall-Effect Latch, PG-SSO-3-2, AMMO-PACK, Green; Manufacturer: Infineon; PartNumber: TLE4946-1L; Bhyst (25degreesC) max: 30 mT; Bop (25degreesC) min: 15 mT; Brp (25degreesC) typ: -15 mT; Chopped Hall Technology: TRUE; Direction Detection: FALSE; Interface: open collector; Target Application: Automotive; DatasheetVersion: Rev. 1.2; PackageVersion: Jul-12; PackageReference: PG-SSO-3-2; PackageDescription: 3-Pin Plastic (Green) Single Small Outline, 4.16 x 3.29 mm Body, 1.27 mm Pitch; Supplier 1: Mouser; Supplier Part Number 1: 726-TLE49461L; Supplier 2: Digi-Key; Supplier Part Number 2: TLE4946-1L-ND; Green: TRUE; Packing: AMMO-PACK; Type: Latch; Mounting Technology: Through Hole; ComponentLink1Description: Manufacturer URL; ComponentLink1URL: http://www.infineon.com/; ComponentLink2Description: Datasheet; ComponentLink2URL: http://www.infineon.com/dgdl/TLE4946-1L_DS_Rev1.2.pdf?folderId=db3a30431689f4420116a096e1db033e&fileId=db3a304316f66ee8011754415efb063d; ComponentLink3Description: Package Specification; ComponentLink3URL: http://www.infineon.com/dgdl/TLE4961-1L_DS_Rev1.0.pdf?folderId=db3a30431ce5fb52011d29818c631b6b&fileId=db3a3043397219b6013977b435505444
footprint INF-PG-SSO-3-2_V (SSO, 3-Leads, Body 4.16x3.29mm, Pitch 1.27mm)
pins: 1 VS (power) "Supply Voltage", 2 GND (power) "Ground", 3 Q (oc) "Output"

## TLE4946-2K
designator U?
High Precision Hall Effect Latch, PG-SC59, Reel, Green; Manufacturer: Infineon; PartNumber: TLE4946-2K; Bhyst (25degreesC) max: 4 mT; Bop (25degreesC) min: 2 mT; Brp (25degreesC) typ: -2 mT; Chopped Hall Technology: TRUE; Direction Detection: FALSE; Interface: open collector; Target Application: Automotive; DatasheetVersion: Rev. 1.0; PackageVersion: Mar-08; PackageReference: PG-SC59; PackageDescription: 3-Pin Semiconductor Package, 3 x 1.53 mm Body, 0.95 mm Pitch; Supplier 1: Mouser; Supplier Part Number 1: 726-TLE49462K; Supplier 2: Digi-Key; Supplier Part Number 2: TLE4946-2KTR-ND; Supplier 3: Digi-Key; Supplier Part Number 3: TLE4946-2KCT-ND; Supplier 4: Digi-Key; Supplier Part Number 4: TLE4946-2KDKR-ND; Green: TRUE; Packing: Reel; Type: Latch; Mounting Technology: Surface Mount; ComponentLink1Description: Manufacturer URL; ComponentLink1URL: http://www.infineon.com/; ComponentLink2Description: Datasheet; ComponentLink2URL: http://www.infineon.com/dgdl/TLE4946-2K_DS_Rev1.pdf?folderId=db3a30431f848401011facc1c83b4674&fileId=db3a30431f848401011fbc925c48637f; ComponentLink3Description: Package Specification; ComponentLink3URL: http://www.infineon.com/dgdl/SC59-Package_Overview.pdf?folderId=db3a30431936bc4b01194dc0d34440b0&fileId=db3a30431936bc4b01194dd1aa1d40cf
footprint INF-PG-SC59_N (SOT23, 3-Leads, Body 3x1.53mm, Pitch 0.95mm, IPC Medium Density)
footprint INF-PG-SC59_L (SOT23, 3-Leads, Body 3x1.53mm, Pitch 0.95mm, IPC High Density)
footprint INF-PG-SC59_M (SOT23, 3-Leads, Body 3x1.53mm, Pitch 0.95mm, IPC Low Density)
pins: 1 VS (power) "Supply voltage", 2 Q (oc) "Output", 3 GND (power) "Ground"

## TLE4946-2L
designator U?
High Precision Hall Effect Latch, PG-SSO-3-2, AMMO-PACK, Green; Manufacturer: Infineon; PartNumber: TLE4946-2L; Bhyst (25degreesC) max: 4 mT; Bop (25degreesC) min: 2 mT; Brp (25degreesC) typ: -2 mT; Chopped Hall Technology: TRUE; Direction Detection: FALSE; Interface: open collector; Target Application: Automotive; DatasheetVersion: Rev. 1.0; PackageVersion: Jul-12; PackageReference: PG-SSO-3-2; PackageDescription: 3-Pin Plastic (Green) Single Small Outline, 4.16 x 3.29 mm Body, 1.27 mm Pitch; Supplier 1: Mouser; Supplier Part Number 1: 726-TLE4946-2L; Supplier 2: Digi-Key; Supplier Part Number 2: TLE4946-2L-ND; Green: TRUE; Packing: AMMO-PACK; Type: Latch; Mounting Technology: Through Hole; ComponentLink1Description: Manufacturer URL; ComponentLink1URL: http://www.infineon.com/; ComponentLink2Description: Datasheet; ComponentLink2URL: http://www.infineon.com/dgdl/TLE4946-2L_Datasheet_Rev.pdf?folderId=db3a30431ce5fb52011d29818c631b6b&fileId=db3a304338ec6d390138fc8f905876d3; ComponentLink3Description: Package Specification; ComponentLink3URL: http://www.infineon.com/dgdl/TLE4961-1L_DS_Rev1.0.pdf?folderId=db3a30431ce5fb52011d29818c631b6b&fileId=db3a3043397219b6013977b435505444
footprint INF-PG-SSO-3-2_V (SSO, 3-Leads, Body 4.16x3.29mm, Pitch 1.27mm)
pins: 1 VS (power) "Supply Voltage", 2 GND (power) "Ground", 3 Q (oc) "Output"

## TLE4946K
designator U?
High Precision Bipolar Hall-Effect Latch, PG-SC59, Reel, Green; Manufacturer: Infineon; PartNumber: TLE4946K; Bhyst (25degreesC) max: 28 mT; Bop (25degreesC) min: 14 mT; Brp (25degreesC) typ: -14 mT; Chopped Hall Technology: TRUE; Direction Detection: FALSE; Interface: open collector; Target Application: Automotive; DatasheetVersion: Rev. 1.0; PackageVersion: Mar-08; PackageReference: PG-SC59; PackageDescription: 3-Pin Semiconductor Package, 3 x 1.53 mm Body, 0.95 mm Pitch; Supplier 1: Mouser; Supplier Part Number 1: 726-TLE4946K; Supplier 2: Digi-Key; Supplier Part Number 2: TLE4946K-ND; Green: TRUE; Packing: Reel; Type: Latch; Mounting Technology: Surface Mount; ComponentLink1Description: Manufacturer URL; ComponentLink1URL: http://www.infineon.com/; ComponentLink2Description: Datasheet; ComponentLink2URL: http://www.infineon.com/dgdl/TLE4946K_DS_Rev1.pdf?folderId=db3a30431f848401011facc1c83b4674&fileId=db3a30431f848401011fbc901e4d6379; ComponentLink3Description: Package Specification; ComponentLink3URL: http://www.infineon.com/dgdl/SC59-Package_Overview.pdf?folderId=db3a30431936bc4b01194dc0d34440b0&fileId=db3a30431936bc4b01194dd1aa1d40cf
footprint INF-PG-SC59_N (SOT23, 3-Leads, Body 3x1.53mm, Pitch 0.95mm, IPC Medium Density)
footprint INF-PG-SC59_L (SOT23, 3-Leads, Body 3x1.53mm, Pitch 0.95mm, IPC High Density)
footprint INF-PG-SC59_M (SOT23, 3-Leads, Body 3x1.53mm, Pitch 0.95mm, IPC Low Density)
pins: 1 VS (power) "Supply voltage", 2 Q (oc) "Output", 3 GND (power) "Ground"

## TLE4961-1K
designator U?
High Precision Automotive Hall Effect Latch, -40 to 170 degC, PG-SC59, Reel, Green; Manufacturer: Infineon; PartNumber: TLE4961-1K; Bhyst (25degreesC) max: 4 mT; Bop (25degreesC) min: 2 mT; Brp (25degreesC) typ: -2 mT; Chopped Hall Technology: TRUE; Direction Detection: FALSE; Interface: open collector; DatasheetVersion: Rev. 1.0; PackageVersion: Mar-08; PackageReference: PG-SC59; PackageDescription: 3-Pin Semiconductor Package, 3 x 1.53 mm Body, 0.95 mm Pitch; Green: TRUE; Halogen-free: TRUE; Packing: Reel; Target Application: Automotive; Type: Latch; Mounting Technology: Surface Mount; ComponentLink1Description: Manufacturer URL; ComponentLink1URL: http://www.infineon.com/; ComponentLink2Description: Datasheet; ComponentLink2URL: http://www.infineon.com/dgdl/TLE4961-1K_DS_Rev1.0.pdf?folderId=db3a30431ce5fb52011d29818c631b6b&fileId=db3a304338e5bb6e0138e7bb30f30257; ComponentLink3Description: Package Specification; ComponentLink3URL: http://www.infineon.com/dgdl/SC59-Package_Overview.pdf?folderId=db3a30431936bc4b01194dc0d34440b0&fileId=db3a30431936bc4b01194dd1aa1d40cf
footprint INF-PG-SC59_N (SOT23, 3-Leads, Body 3x1.53mm, Pitch 0.95mm, IPC Medium Density)
footprint INF-PG-SC59_L (SOT23, 3-Leads, Body 3x1.53mm, Pitch 0.95mm, IPC High Density)
footprint INF-PG-SC59_M (SOT23, 3-Leads, Body 3x1.53mm, Pitch 0.95mm, IPC Low Density)
pins: 1 VDD (power) "Supply voltage", 2 Q (oc) "Output", 3 GND (power) "Ground"

## TLE4961-1L
designator U?
High Precision Automotive Hall Effect Latch, -40 to 170 degC, PG-SSO-3-2, AMMO-PACK, Green; Manufacturer: Infineon; PartNumber: TLE4961-1L; Bhyst (25degreesC) max: 4 mT; Bop (25degreesC) min: 2 mT; Brp (25degreesC) typ: -2 mT; Chopped Hall Technology: TRUE; Direction Detection: FALSE; Interface: open collector; DatasheetVersion: Rev. 1.0; PackageVersion: Jul-12; PackageReference: PG-SSO-3-2; PackageDescription: 3-Pin Plastic (Green) Single Small Outline, 4.16 x 3.29 mm Body, 1.27 mm Pitch; Green: TRUE; Packing: AMMO-PACK; Target Application: Automotive; Type: Latch; Mounting Technology: Through Hole; ComponentLink1Description: Manufacturer URL; ComponentLink1URL: http://www.infineon.com/; ComponentLink2Description: Datasheet; ComponentLink2URL: http://www.infineon.com/dgdl/TLE4961-1L_DS_Rev1.0.pdf?folderId=db3a30431ce5fb52011d29818c631b6b&fileId=db3a3043397219b6013977b435505444; ComponentLink3Description: Package Specification; ComponentLink3URL: http://www.infineon.com/dgdl/TLE4961-1L_DS_Rev1.0.pdf?folderId=db3a30431ce5fb52011d29818c631b6b&fileId=db3a3043397219b6013977b435505444
footprint INF-PG-SSO-3-2_V (SSO, 3-Leads, Body 4.16x3.29mm, Pitch 1.27mm)
pins: 1 VDD (power) "Supply voltage", 2 GND (power) "Ground", 3 Q (oc) "Output"

## TLE4961-1M
designator U?
High Precision Automotive Hall Effect Latch, -40 to 170 degC, PG-SOT23-3-15, Reel, Green; Manufacturer: Infineon; PartNumber: TLE4961-1M; Bhyst (25degreesC) max: 4 mT; Bop (25degreesC) min: 2 mT; Brp (25degreesC) typ: -2 mT; Chopped Hall Technology: TRUE; Direction Detection: FALSE; Interface: open collector; DatasheetVersion: Rev. 1.0; PackageVersion: Apr-08; PackageReference: PG-SOT23-3-15; PackageDescription: 3-Pin Small Outline Transistor Package, 2.9 x 1.3 mm Body, 0.95 mm Pitch; Green: TRUE; Halogen-free: TRUE; Packing: Reel; Target Application: Automotive; Type: Latch; Mounting Technology: Surface Mount; ComponentLink1Description: Manufacturer URL; ComponentLink1URL: http://www.infineon.com/; ComponentLink2Description: Datasheet; ComponentLink2URL: http://www.infineon.com/dgdl/TLE4961-1M_DS_Rev1.0.pdf?folderId=db3a30431ce5fb52011d29818c631b6b&fileId=db3a304338e5bb6e0138e7c1d93c0261; ComponentLink3Description: Package Specification; ComponentLink3URL: http://www.infineon.com/dgdl/SOT23-Package_Overview.pdf?folderId=db3a30431936bc4b0119532290053c66&fileId=db3a30431936bc4b0119533468123c85
footprint INF-PG-SOT23-3-15_N (SOT23, 3-Leads, Body 2.9x1.3mm, Pitch 0.95mm, IPC Medium Density)
footprint INF-PG-SOT23-3-15_L (SOT23, 3-Leads, Body 2.9x1.3mm, Pitch 0.95mm, IPC High Density)
footprint INF-PG-SOT23-3-15_M (SOT23, 3-Leads, Body 2.9x1.3mm, Pitch 0.95mm, IPC Low Density)
pins: 1 VDD (power) "Supply voltage", 2 Q (oc) "Output", 3 GND (power) "Ground"